# Altium integrated library Embedded - Microcontrollers.IntLib: 8 symbols
Pins are listed as number, name and electrical type; pins without a type are passive.

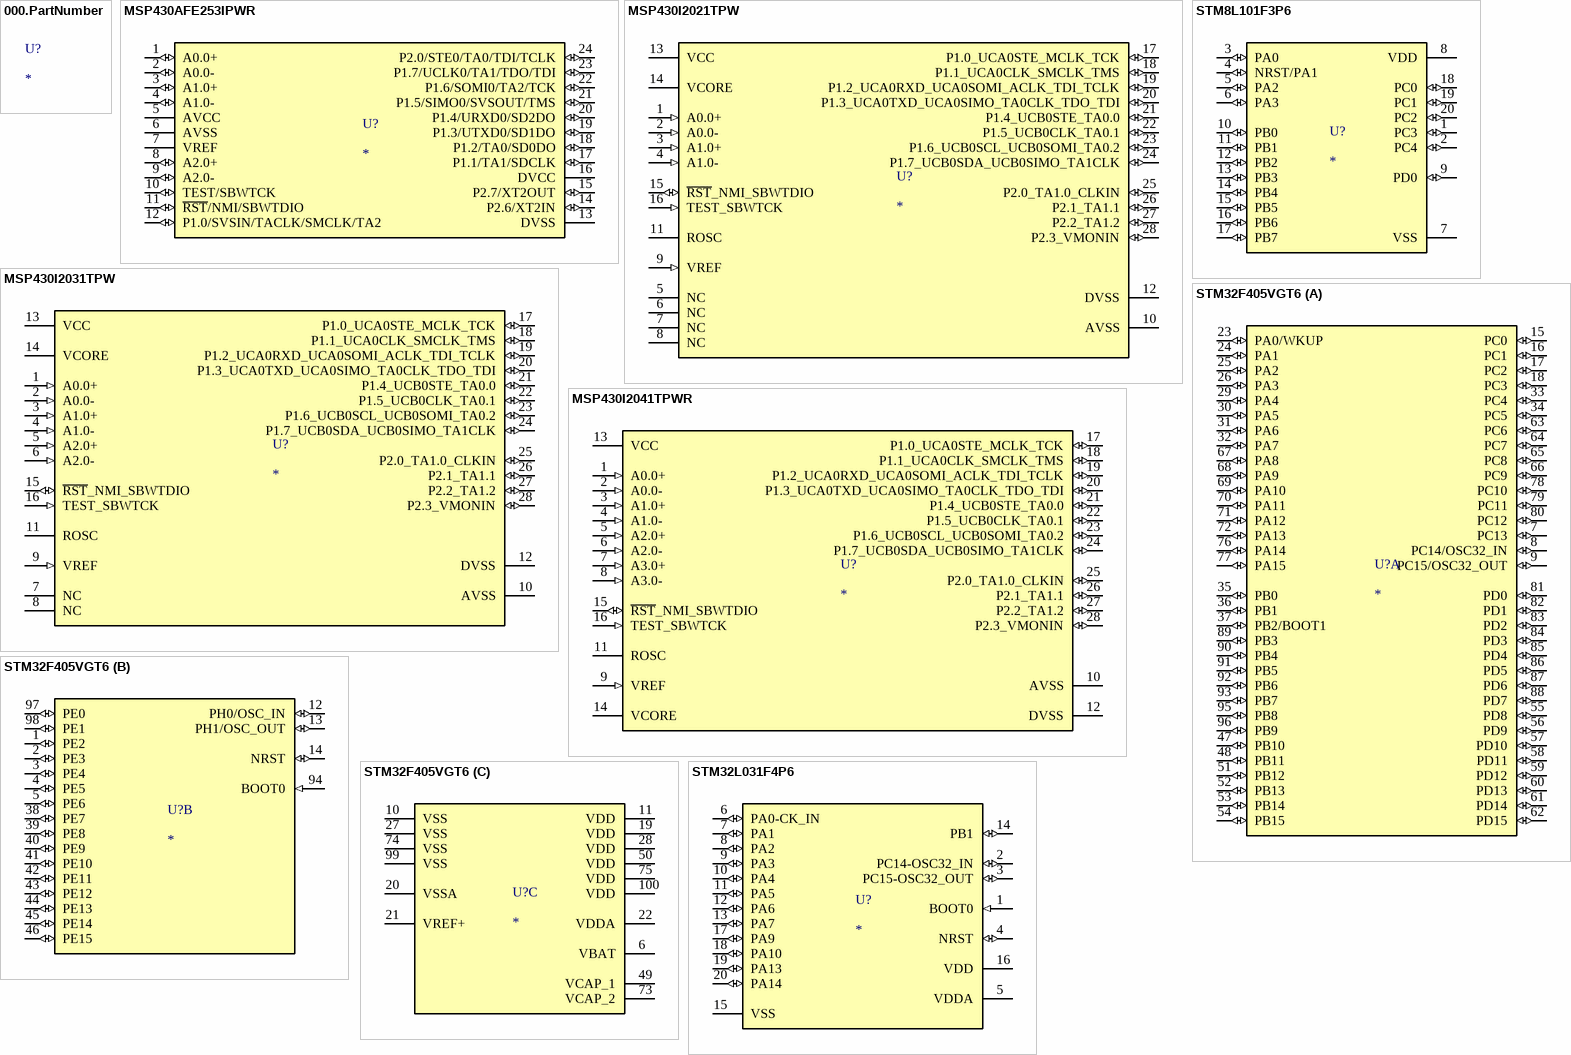
[diagram p0: symbols 000.PartNumber to STM32L031F4P6]

## 000.PartNumber
designator U?
Digikey Description; Manufacturer: *; Series: *; Package: *; Core Processor: *; Core Size: *; Speed: *; Connectivity: *; Peripherals: *; Program Memory Size: *; Program Memory Type: *; EEPROM Size: *; RAM Size: *; Voltage - Supply (Vcc/Vdd): *; Data Converters: *; Oscillator Type: *; Operating Temperature: *; Mounting Type: *; Package / Case: *; Supplier Device Package: *; Number of I/O: *; Base Product Number: *; Ozdisan Link: *; Digikey Link: *; Farnell TR Link: *; Mouser Link: *

## MSP430AFE253IPWR
designator U?
IC MCU 16BIT 16KB FLASH 24TSSOP; Manufacturer: Texas Instruments; Core Processor: MSP430; Core Size: 16-Bit; Speed: 12 MHz; Connectivity: SPI, UART/USART; Peripherals: Brown-out Detect/Reset, PWM, WDT; Program Memory Size: 16KB (16K x 8); RAM Size: 512 x 8; Voltage - Supply (Vcc/Vdd): 1.8V ~ 3.6V; Data Converters: A/D 3x24b; Oscillator Type: Internal; Number of I/O: 11; Base Product Number: 430AFE253; Series: MSP430F2xx; Package: Tape & Reel (TR); Program Memory Type: FLASH; EEPROM Size: -; Operating Temperature: -40°C ~ 85°C (TA); Mounting Type: Surface Mount; Package / Case: 24-TSSOP (0.173", 4.40mm Width); Supplier Device Package: 24-TSSOP; Ozdisan Link: -; Digikey Link: https://www.digikey.com/en/products/detail/texas-instruments/MSP430AFE253IPWR/2695991?s=N4IgTCBcDaILIGUAKAWAzABgIIDECiYArGgJJIDqASiALoC%2BQA; Farnell TR Link: -; Mouser Link: https://www.mouser.com.tr/ProductDetail/Texas-Instruments/MSP430AFE253IPWR?qs=THnoWt2ah2A8Ovj0qTXviQ%3D%3D
footprint TI_24-TSSOP
pins: 1 A0.0+ (io), 2 A0.0- (io), 3 A1.0+ (io), 4 A1.0- (io), 5 AVCC (power), 6 AVSS (power), 7 VREF (power), 8 A2.0+ (io), 9 A2.0- (io), 10 TEST/SBWTCK (io), 11 ~{RST}/NMI/SBWTDIO (io), 12 P1.0/SVSIN/TACLK/SMCLK/TA2 (io), 13 DVSS (power), 14 P2.6/XT2IN (io), 15 P2.7/XT2OUT (io), 16 DVCC (power), 17 P1.1/TA1/SDCLK (io), 18 P1.2/TA0/SD0DO (io), 19 P1.3/UTXD0/SD1DO (io), 20 P1.4/URXD0/SD2DO (io), 21 P1.5/SIMO0/SVSOUT/TMS (io), 22 P1.6/SOMI0/TA2/TCK (io), 23 P1.7/UCLK0/TA1/TDO/TDI (io), 24 P2.0/STE0/TA0/TDI/TCLK (io)

## MSP430I2021TPW
designator U?
IC MCU 16BIT 32KB FLASH 28TSSOP; Manufacturer: Texas Instruments; Core Size: 16-Bit; Speed: 16.384Mhz; Connectivity: I²C, IrDA, SCI, SPI, UART/USART; Peripherals: Brown-out Detect/Reset, PWM, WDT; Program Memory Size: 32KB (32K x 8); RAM Size: 2K x 8; Voltage - Supply (Vcc/Vdd): 2.2V ~ 3.6V; Data Converters: A/D 2x24b Sigma-Delta; Oscillator Type: External; Number of I/O: 12; Base Product Number: 430I2021; Series: MSP430I2xx; Package: Tube; Core Processor: -; Program Memory Type: FLASH; EEPROM Size: -; Operating Temperature: -40°C ~ 105°C (TA); Mounting Type: Surface Mount; Package / Case: 28-TSSOP (0.173", 4.40mm Width); Supplier Device Package: 28-TSSOP; Ozdisan Link: -; Digikey Link: https://www.digikey.com/en/products/detail/texas-instruments/MSP430I2021TPW/5232713; Farnell TR Link: -; Mouser Link: https://www.mouser.com.tr/ProductDetail/Texas-Instruments/MSP430I2021TPW?qs=asCBFxFfL1RogSTt4xDTTw%3D%3D
footprint TI_28-TSSOP
pins: 1 A0.0+ (in), 2 A0.0- (in), 3 A1.0+ (in), 4 A1.0- (in), 5 NC, 6 NC, 7 NC, 8 NC, 9 VREF (in), 10 AVSS (power), 11 ROSC, 12 DVSS (power), 13 VCC (power), 14 VCORE (power), 15 ~{RST}_NMI_SBWTDIO (io), 16 TEST_SBWTCK (in), 17 P1.0_UCA0STE_MCLK_TCK (io), 18 P1.1_UCA0CLK_SMCLK_TMS (io), 19 P1.2_UCA0RXD_UCA0SOMI_ACLK_TDI_TCLK (io), 20 P1.3_UCA0TXD_UCA0SIMO_TA0CLK_TDO_TDI (io), 21 P1.4_UCB0STE_TA0.0 (io), 22 P1.5_UCB0CLK_TA0.1 (io), 23 P1.6_UCB0SCL_UCB0SOMI_TA0.2 (io), 24 P1.7_UCB0SDA_UCB0SIMO_TA1CLK (io), 25 P2.0_TA1.0_CLKIN (io), 26 P2.1_TA1.1 (io), 27 P2.2_TA1.2 (io), 28 P2.3_VMONIN (io)

## MSP430I2031TPW
designator U?
IC MCU 16BIT 32KB FLASH 28TSSOP; Manufacturer: Texas Instruments; Core Size: 16-Bit; Speed: 16.384Mhz; Connectivity: I²C, IrDA, SCI, SPI, UART/USART; Peripherals: Brown-out Detect/Reset, PWM, WDT; Program Memory Size: 32KB (32K x 8); RAM Size: 2K x 8; Voltage - Supply (Vcc/Vdd): 2.2V ~ 3.6V; Data Converters: A/D 3x24b Sigma-Delta; Oscillator Type: External; Number of I/O: 12; Base Product Number: 430I2031; Series: MSP430I2xx; Package: Tube; Core Processor: -; Program Memory Type: FLASH; EEPROM Size: -; Operating Temperature: -40°C ~ 105°C (TA); Mounting Type: Surface Mount; Package / Case: 28-TSSOP (0.173", 4.40mm Width); Supplier Device Package: 28-TSSOP; Ozdisan Link: -; Digikey Link: https://www.digikey.com/en/products/detail/texas-instruments/MSP430I2031TPW/5232721; Farnell TR Link: -; Mouser Link: https://www.mouser.com.tr/ProductDetail/Texas-Instruments/MSP430I2031TPW?qs=asCBFxFfL1QszT%2FNepPaaw%3D%3D
footprint TI_28-TSSOP
pins: 1 A0.0+ (in), 2 A0.0- (in), 3 A1.0+ (in), 4 A1.0- (in), 5 A2.0+ (in), 6 A2.0- (in), 7 NC, 8 NC, 9 VREF (in), 10 AVSS (power), 11 ROSC, 12 DVSS (power), 13 VCC (power), 14 VCORE (power), 15 ~{RST}_NMI_SBWTDIO (io), 16 TEST_SBWTCK (in), 17 P1.0_UCA0STE_MCLK_TCK (io), 18 P1.1_UCA0CLK_SMCLK_TMS (io), 19 P1.2_UCA0RXD_UCA0SOMI_ACLK_TDI_TCLK (io), 20 P1.3_UCA0TXD_UCA0SIMO_TA0CLK_TDO_TDI (io), 21 P1.4_UCB0STE_TA0.0 (io), 22 P1.5_UCB0CLK_TA0.1 (io), 23 P1.6_UCB0SCL_UCB0SOMI_TA0.2 (io), 24 P1.7_UCB0SDA_UCB0SIMO_TA1CLK (io), 25 P2.0_TA1.0_CLKIN (io), 26 P2.1_TA1.1 (io), 27 P2.2_TA1.2 (io), 28 P2.3_VMONIN (io)

## MSP430I2041TPWR
designator U?
IC MCU 16BIT 32KB FLASH 28TSSOP; Manufacturer: Texas Instruments; Core Size: 16-Bit; Speed: 16.384Mhz; Connectivity: I²C, IrDA, SCI, SPI, UART/USART; Peripherals: Brown-out Detect/Reset, PWM, WDT; Program Memory Size: 32KB (32K x 8); RAM Size: 2K x 8; Voltage - Supply (Vcc/Vdd): 2.2V ~ 3.6V; Data Converters: A/D 4x24b Sigma-Delta; Oscillator Type: External; Number of I/O: 12; Base Product Number: 430I2041; Series: MSP430I2xx; Package: Tape & Reel (TR); Core Processor: -; Program Memory Type: FLASH; EEPROM Size: -; Operating Temperature: -40°C ~ 105°C (TA); Mounting Type: Surface Mount; Package / Case: 28-TSSOP (0.173", 4.40mm Width); Supplier Device Package: 28-TSSOP; Ozdisan Link: -; Digikey Link: https://www.digikey.com/en/products/detail/texas-instruments/MSP430I2041TPWR/4914942; Farnell TR Link: -; Mouser Link: https://www.mouser.com.tr/ProductDetail/Texas-Instruments/MSP430I2041TPWR?qs=m1T3c8F5IULkv%252Bo%2FvoXMeg%3D%3D
footprint TI_28-TSSOP
pins: 1 A0.0+ (in), 2 A0.0- (in), 3 A1.0+ (in), 4 A1.0- (in), 5 A2.0+ (in), 6 A2.0- (in), 7 A3.0+ (in), 8 A3.0- (in), 9 VREF (in), 10 AVSS (power), 11 ROSC, 12 DVSS (power), 13 VCC (power), 14 VCORE, 15 ~{RST}_NMI_SBWTDIO (io), 16 TEST_SBWTCK (in), 17 P1.0_UCA0STE_MCLK_TCK (io), 18 P1.1_UCA0CLK_SMCLK_TMS (io), 19 P1.2_UCA0RXD_UCA0SOMI_ACLK_TDI_TCLK (io), 20 P1.3_UCA0TXD_UCA0SIMO_TA0CLK_TDO_TDI (io), 21 P1.4_UCB0STE_TA0.0 (io), 22 P1.5_UCB0CLK_TA0.1 (io), 23 P1.6_UCB0SCL_UCB0SOMI_TA0.2 (io), 24 P1.7_UCB0SDA_UCB0SIMO_TA1CLK (io), 25 P2.0_TA1.0_CLKIN (io), 26 P2.1_TA1.1 (io), 27 P2.2_TA1.2 (io), 28 P2.3_VMONIN (io)

## STM8L101F3P6
designator U?
IC MCU 8BIT 8KB FLASH 20TSSOP; Manufacturer: STMicroelectronics; Core Processor: STM8; Core Size: 8-Bit; Speed: 16MHz; Connectivity: I²C, SPI, UART/USART; Peripherals: Infrared, POR, PWM, WDT; Program Memory Size: 8KB (8K x 8); EEPROM Size: 2K x 8; RAM Size: 1.5K x 8; Voltage - Supply (Vcc/Vdd): 1.65V ~ 3.6V; Oscillator Type: Internal; Number of I/O: 18; Series: STM8L EnergyLite; Package: Tube; Program Memory Type: FLASH; Data Converters: -; Operating Temperature: -40°C ~ 85°C (TA); Mounting Type: Surface Mount; Package / Case: 20-TSSOP (0.173", 4.40mm Width); Supplier Device Package: 20-TSSOP; Base Product Number: STM8; Ozdisan Link: https://ozdisan.com/Product/Detail/493263/STM8L101F3P6; Digikey Link: https://www.digikey.com/en/products/detail/stmicroelectronics/STM8L101F3P6/2346329; Farnell TR Link: https://tr.farnell.com/stmicroelectronics/stm8l101f3p6/mcu-8bit-stm8-16mhz-tssop-20/dp/1776994?st=stm8l101f3p6; Mouser Link: https://www.mouser.com.tr/ProductDetail/STMicroelectronics/STM8L101F3P6?qs=785ODRNtVHYnBDXPXXDlTw%3D%3D
footprint STM_TSSOP20
pins: 1 PC3 (io), 2 PC4 (io), 3 PA0 (io), 4 NRST/PA1 (io), 5 PA2 (io), 6 PA3 (io), 7 VSS (power), 8 VDD (power), 9 PD0 (io), 10 PB0 (io), 11 PB1 (io), 12 PB2 (io), 13 PB3 (io), 14 PB4 (io), 15 PB5 (io), 16 PB6 (io), 17 PB7 (io), 18 PC0 (io), 19 PC1 (io), 20 PC2 (io)

## STM32F405VGT6
designator U?
IC MCU 32BIT 1MB FLASH 100LQFP; Manufacturer: STMicroelectronics; Core Processor: ARM® Cortex®-M4; Core Size: 32-Bit; Speed: 168MHz; Connectivity: CANbus, EBI/EMI, I²C, IrDA, LINbus, SPI, UART/USART, USB OTG; Peripherals: Brown-out Detect/Reset, DMA, I²S, LCD, POR, PWM, WDT; Program Memory Size: 1MB (1M x 8); RAM Size: 192K x 8; Voltage - Supply (Vcc/Vdd): 1.8V ~ 3.6V; Data Converters: A/D 16x12b; D/A 2x12b; Oscillator Type: Internal; Number of I/O: 82; Base Product Number: STM32F405; Series: STM32F4; Package: Tray; Program Memory Type: FLASH; EEPROM Size: -; Operating Temperature: -40°C ~ 85°C (TA); Mounting Type: Surface Mount; Package / Case: 100-LQFP; Supplier Device Package: 100-LQFP (14x14); Ozdisan Link: https://ozdisan.com/entegre-devreler-ics/embedded-entegreler/mikroislemciler/STM32F405VGT6; Digikey Link: https://www.digikey.com/en/products/detail/stmicroelectronics/STM32F405VGT6/2757670; Farnell TR Link: https://tr.farnell.com/stmicroelectronics/stm32f405vgt6/mcu-32bit-cortex-m4-168mhz-lqfp/dp/2215224?st=stm32f405vgt6; Mouser Link: https://www.mouser.com.tr/ProductDetail/STMicroelectronics/STM32F405VGT6?qs=Z8%252BeY1k3TIJiWie7HpfDCQ%3D%3D
footprint STM_LQFP100-14x14mm
part A pins: 7 PC13 (io), 8 PC14/OSC32_IN (io), 9 PC15/OSC32_OUT (io), 15 PC0 (io), 16 PC1 (io), 17 PC2 (io), 18 PC3 (io), 23 PA0/WKUP (io), 24 PA1 (io), 25 PA2 (io), 26 PA3 (io), 29 PA4 (io), 30 PA5 (io), 31 PA6 (io), 32 PA7 (io), 33 PC4 (io), 34 PC5 (io), 35 PB0 (io), 36 PB1 (io), 37 PB2/BOOT1 (io), 47 PB10 (io), 48 PB11 (io), 51 PB12 (io), 52 PB13 (io), 53 PB14 (io), 54 PB15 (io), 55 PD8 (io), 56 PD9 (io), 57 PD10 (io), 58 PD11 (io), 59 PD12 (io), 60 PD13 (io), 61 PD14 (io), 62 PD15 (io), 63 PC6 (io), 64 PC7 (io), 65 PC8 (io), 66 PC9 (io), 67 PA8 (io), 68 PA9 (io), 69 PA10 (io), 70 PA11 (io), 71 PA12 (io), 72 PA13 (io), 76 PA14 (io), 77 PA15 (io), 78 PC10 (io), 79 PC11 (io), 80 PC12 (io), 81 PD0 (io), 82 PD1 (io), 83 PD2 (io), 84 PD3 (io), 85 PD4 (io), 86 PD5 (io), 87 PD6 (io), 88 PD7 (io), 89 PB3 (io), 90 PB4 (io), 91 PB5 (io), 92 PB6 (io), 93 PB7 (io), 95 PB8 (io), 96 PB9 (io)
part B pins: 1 PE2 (io), 2 PE3 (io), 3 PE4 (io), 4 PE5 (io), 5 PE6 (io), 12 PH0/OSC_IN (io), 13 PH1/OSC_OUT (io), 14 NRST (io), 38 PE7 (io), 39 PE8 (io), 40 PE9 (io), 41 PE10 (io), 42 PE11 (io), 43 PE12 (io), 44 PE13 (io), 45 PE14 (io), 46 PE15 (io), 94 BOOT0 (in), 97 PE0 (io), 98 PE1 (io)
part C pins: 6 VBAT (power), 10 VSS (power), 11 VDD (power), 19 VDD (power), 20 VSSA (power), 21 VREF+ (power), 22 VDDA (power), 27 VSS (power), 28 VDD (power), 49 VCAP_1 (power), 50 VDD (power), 73 VCAP_2 (power), 74 VSS (power), 75 VDD (power), 99 VSS (power), 100 VDD (power)

## STM32L031F4P6
designator U?
IC MCU 32BIT 16KB FLASH 20TSSOP; Manufacturer: STMicroelectronics; Core Processor: ARM® Cortex®-M0+; Core Size: 32-Bit; Speed: 32MHz; Connectivity: I²C, IrDA, LINbus, SPI, UART/USART; Peripherals: Brown-out Detect/Reset, DMA, POR, PWM, WDT; Program Memory Size: 16KB (16K x 8); EEPROM Size: 1K x 8; RAM Size: 8K x 8; Voltage - Supply (Vcc/Vdd): 1.8V ~ 3.6V; Data Converters: A/D 10x12b; Oscillator Type: Internal; Number of I/O: 15; Base Product Number: STM32L031; Series: STM32L0; Package: Tube; Program Memory Type: FLASH; Operating Temperature: -40°C ~ 85°C (TA); Mounting Type: Surface Mount; Package / Case: 20-TSSOP (0.173", 4.40mm Width); Supplier Device Package: 20-TSSOP; Ozdisan Link: https://ozdisan.com/entegre-devreler-ics/embedded-entegreler/mikroislemciler/STM32L031F4P6; Digikey Link: https://www.digikey.com/en/products/detail/stmicroelectronics/STM32L031F4P6/6166973?s=N4IgTCBcDaIMoBUCyBmMAZADCgjAMQBYAFANhAF0BfIA; Farnell TR Link: https://tr.farnell.com/stmicroelectronics/stm32l031f4p6/mcu-arm-cortex-m0-32mhz-tssop/dp/2770299?ost=stm32l031f4p6; Mouser Link: https://www.mouser.com.tr/ProductDetail/STMicroelectronics/STM32L031F4P6?qs=%2Fha2pyFaduhqyM53XaxcAgr2mKjmBg9oFLQcLJejrJLswaF2nHRAfw%3D%3D
footprint STM_TSSOP20
pins: 1 BOOT0 (in), 2 PC14-OSC32_IN (io), 3 PC15-OSC32_OUT (io), 4 NRST (io), 5 VDDA (power), 6 PA0-CK_IN (io), 7 PA1 (io), 8 PA2 (io), 9 PA3 (io), 10 PA4 (io), 11 PA5 (io), 12 PA6 (io), 13 PA7 (io), 14 PB1 (io), 15 VSS (power), 16 VDD (power), 17 PA9 (io), 18 PA10 (io), 19 PA13 (io), 20 PA14 (io)